# Altium integrated library FDD4685_F085.IntLib: 1 symbol
Pins are listed as number, name and electrical type; pins without a type are passive.

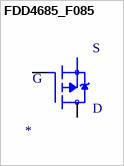
[diagram p0: symbol FDD4685_F085]

## FDD4685_F085
designator ?
P-Channel 40V 8.4A _Ta_, 32A _Tc_ 83W _Tc_ Surface Mount D-PAK _TO-252AA_; MF: ON Semiconductor; MP: FDD4685_F085; Value: *; Price: None; Package: None; SnapEDA_Link: https://www.snapeda.com/parts/FDD4685_F085/ON%20Semiconductor/view-part/2771459/?ref=snap; Availability: Unavailable
footprint D2PACK
pins: 1_G G, 2_D D, 3_S S